# EAGLE library part 4R-N (library untitled)
Array Chip Resistor Source: RS Component / Phycomp
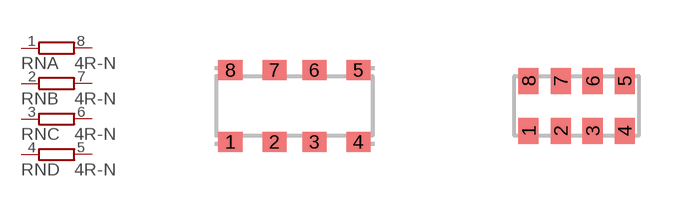
[diagram p0: symbol with the pads of 0402-ARV; footprints 0402-ARV, 0603-ARC]

Designator prefix RN; gates A=R1NV B=R1NV C=R1NV D=R1NV

## 4R-N0402-ARV  [0402-ARV]
1  A:1  pas
2  B:1  pas
3  C:1  pas
4  D:1  pas
5  D:2  pas
6  C:2  pas
7  B:2  pas
8  A:2  pas

## 4R-N0603-ARC  [0603-ARC]
Pads as for 0402-ARV

## 4R-N0603-ARV  [0603-ARV]
Pads as for 0402-ARV

## 4R-NCAT16  [CAT16]
Pads as for 0402-ARV

## 4R-NCAY16  [CAY16]
Pads as for 0402-ARV

## 4R-N1206  [1206-CRA]
Pads as for 0402-ARV

## 4R-N1206M  [1206-CRAM]
Pads as for 0402-ARV

## Footprint 0402-ARV (pad centres in mm)
Chip Resistor Array size 4 × 0402 Source: RS Component / Phycomp Components
smd 0.6 x 0.5: 1 -1.6,-0.9; 2 -0.5,-0.9; 3 0.5,-0.9; 4 1.6,-0.9; 5 1.6,0.9; 6 0.5,0.9; 7 -0.5,0.9; 8 -1.6,0.9

## Footprint 0603-ARC (pad centres in mm)
Chip Resistor Array size 4 × 0603 concave termination - Phycomp Components Source: RS Components
smd 0.5 x 0.65: 1 -1.2,-0.625; 2 -0.4,-0.625; 3 0.4,-0.625; 4 1.2,-0.625; 5 1.2,0.625; 6 0.4,0.625; 7 -0.4,0.625; 8 -1.2,0.625

## Footprint 0603-ARV (pad centres in mm)
Chip Resistor Array size 4 × 0603 convex termination - Phycomp Components Source: RS Components
smd 0.5 x 0.65: 1 -1.2,-0.625; 2 -0.4,-0.625; 3 0.4,-0.625; 4 1.2,-0.625; 5 1.2,0.625; 6 0.4,0.625; 7 -0.4,0.625; 8 -1.2,0.625

## Footprint CAT16 (pad centres in mm)
BOURNS Chip Resistor Array Source: RS Component / BUORNS
smd 0.5 x 0.65: 1 -1.2,-0.675; 2 -0.4,-0.675; 3 0.4,-0.675; 4 1.2,-0.675; 5 1.2,0.675; 6 0.4,0.675; 7 -0.4,0.675; 8 -1.2,0.675

## Footprint CAY16 (pad centres in mm)
BOURNS Chip Resistor Array Source: RS Component / BUORNS
smd 0.5 x 0.65: 1 -1.2,-0.675; 2 -0.4,-0.675; 3 0.4,-0.675; 4 1.2,-0.675; 5 1.2,0.675; 6 0.4,0.675; 7 -0.4,0.675; 8 -1.2,0.675

## Footprint 1206-CRA (pad centres in mm)
smd 0.4 x 0.8: 1 -1.2,-0.8; 2 -0.4,-0.8; 3 0.4,-0.8; 4 1.2,-0.8; 5 1.2,0.8; 6 0.4,0.8; 7 -0.4,0.8; 8 -1.2,0.8

## Footprint 1206-CRAM (pad centres in mm)
smd 0.4 x 1: 1 -1.2,-0.8; 2 -0.4,-0.8; 3 0.4,-0.8; 4 1.2,-0.8; 5 1.2,0.8; 6 0.4,0.8; 7 -0.4,0.8; 8 -1.2,0.8